# Altium integrated library Linear Technology Power Management Switching Regulator LTC1174-LTC3901.IntLib: 2647 symbols (part 151 of 364)
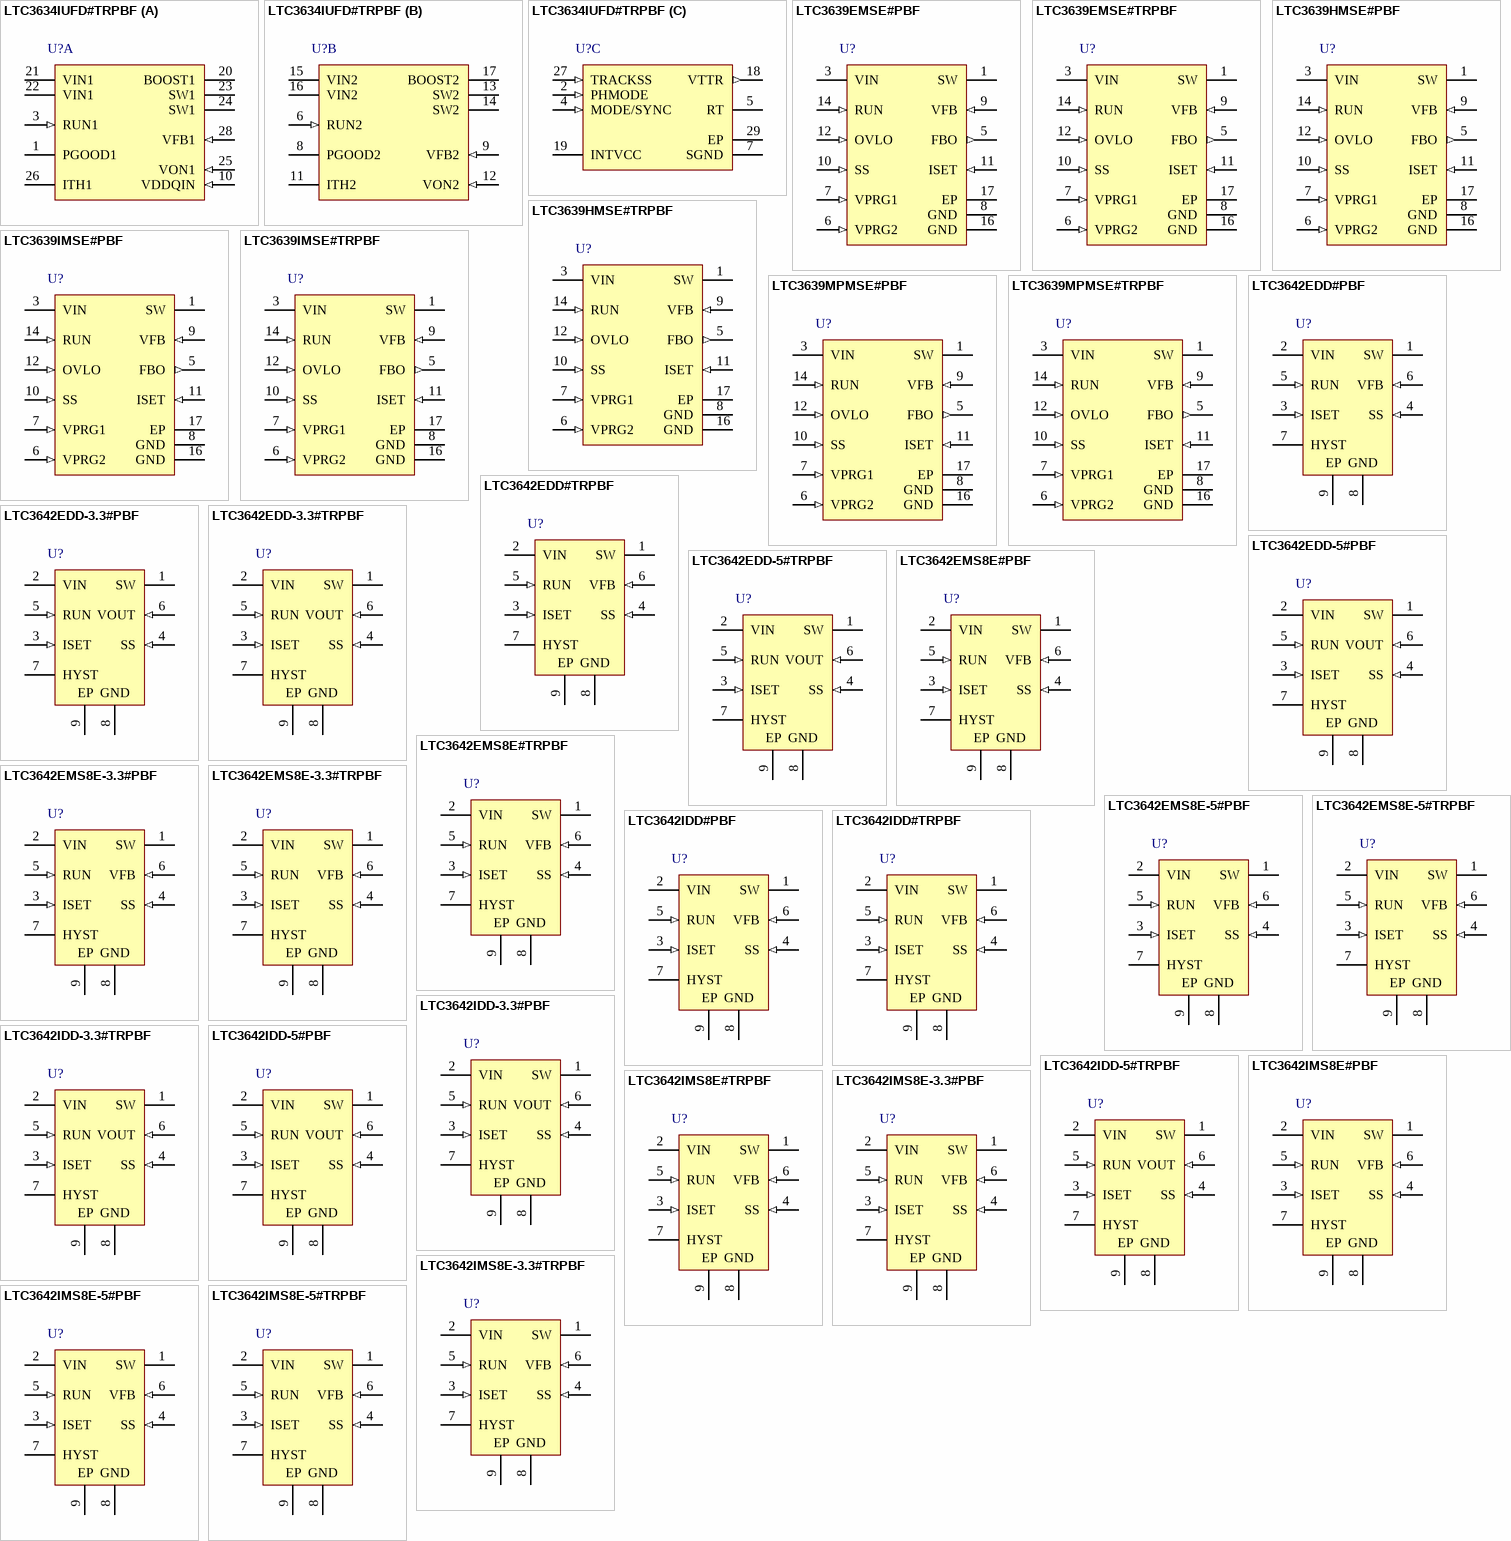
[diagram p192: symbols LTC3634IUFD#TRPBF to LTC3642IMS8E-5#TRPBF]

## LTC3639HMSE#PBF
designator U?
High Efficiency, 100 mA Synchronous Step-Down Regulator, 16-pin SOP (MSE-16-V(12)4PR-EDP), -40 to 150 degC, Pb-Free; Manufacturer: Linear Technology; PartNumber: LTC3639HMSE#PBF; Number of Outputs: 1; DatasheetVersion: Rev. A; PackageVersion: Rev. D, 05/2013; PackageReference: MSE-16; PackageDescription: 12-Pin Plastic MSOP, Exposed Die Pad, Body 4.039 x 3 mm, Pitch 0.5 mm; Supplier 1: Digi-Key; Supplier Part Number 1: LTC3639HMSE#PBF-ND; Supplier 2: Newark; Supplier Part Number 2: 86W7558; RoHS: TRUE; Mounting Technology: Surface Mount; ComponentLink1Description: Manufacturer URL; ComponentLink1URL: http://www.linear.com/; ComponentLink2Description: Datasheet; ComponentLink2URL: http://cds.linear.com/docs/en/datasheet/3639fa.pdf; ComponentLink3Description: Package Specification; ComponentLink3URL: http://cds.linear.com/docs/en/packaging/05081871_D_MSE16(12).pdf
footprint LT-MSE-16-V(12)4PR-EDP_N (SOP, 12-Leads, Body 4.1x3.1mm, Pitch 0.5mm, Thermal Pad 1.76x2.95mm, IPC Medium Density)
footprint LT-MSE-16-V(12)4PR-EDP_L (SOP, 12-Leads, Body 4.1x3.1mm, Pitch 0.5mm, Thermal Pad 1.76x2.95mm, IPC High Density)
footprint LT-MSE-16-V(12)4PR-EDP_M (SOP, 12-Leads, Body 4.1x3.1mm, Pitch 0.5mm, Thermal Pad 1.76x2.95mm, IPC Low Density)
pins: 1 SW (power) "Switch Node Connection to Inductor. This pin connects to the drains of the internal power MOSFET switches.", 3 VIN (power) "Main Supply Pin. A ceramic bypass capacitor should be tied between this pin and GND.", 5 FBO (out) "Feedback Comparator Output. Connect to the VFB pins of additional LTC3639s to combine the output current. The typical pull-up current is 20uA. The typical pulldown impedance is 70ohm. See Applications Information.", 6 VPRG2 (in) "Output Voltage Selection. Short both pins to ground for a resistive divider programmable output voltage. Short VPRG1 to SS and short VPRG2 to ground for a 5V output voltage. Short VPRG1 to ground and short VPRG2 to SS for a (See Datasheet)", 7 VPRG1 (in) "Output Voltage Selection. Short both pins to ground for a resistive divider programmable output voltage. Short VPRG1 to SS and short VPRG2 to ground for a 5V output voltage. Short VPRG1 to ground and short VPRG2 to SS for a (See Datasheet)", 8 GND (power) "Ground.", 9 VFB (in) "Output Voltage Feedback. When configured for an adjustable output voltage, connect to an external resistive divider to divide the output voltage down for comparison to the 0.8V reference. For the fixed output configuration, (See Datasheet)", 10 SS (in) "Soft-Start Control Input. A capacitor to ground at this pin sets the output voltage ramp time. A 50uA current initially charges the soft-start capacitor until switching begins, at which time the current is reduced to its (See Datasheet)", 11 ISET (in) "Peak Current Set Input. A resistor from this pin to ground sets the peak current comparator threshold. Leave floating for the maximum peak current (230mA typical) or short to ground for minimum peak current (25mA typical). (See Datasheet)", 12 OVLO (in) "Overvoltage Lockout Input. Connect to the input supply through a resistor divider to set the overvoltage lockout level. A voltage on this pin above 1.21V disables the internal MOSFET switches. Normal operation resumes when (See Datasheet)", 14 RUN (in) "Run Control Input. A voltage on this pin above 1.21V enables normal operation. Forcing this pin below 0.7V shuts down the LTC3639, reducing quiescent current to approximately 1.4uA. Optionally, connect to the input supply (See Datasheet)", 16 GND (power) "Ground.", 17 EP (power) "Ground. The exposed pad must be soldered to the PCB ground plane for rated thermal performance."

## LTC3639HMSE#TRPBF
designator U?
High Efficiency, 100 mA Synchronous Step-Down Regulator, 16-pin SOP (MSE-16-V(12)4PR-EDP), -40 to 150 degC, Pb-Free, Tape and Reel; Manufacturer: Linear Technology; PartNumber: LTC3639HMSE#TRPBF; Number of Outputs: 1; DatasheetVersion: Rev. A; PackageVersion: Rev. D, 05/2013; PackageReference: MSE-16; PackageDescription: 12-Pin Plastic MSOP, Exposed Die Pad, Body 4.039 x 3 mm, Pitch 0.5 mm; Supplier 1: Digi-Key; Supplier Part Number 1: LTC3639HMSE#TRPBF-ND; Supplier 2: Newark; Supplier Part Number 2: 86W7559; Packing: Tape and Reel; RoHS: TRUE; Mounting Technology: Surface Mount; ComponentLink1Description: Manufacturer URL; ComponentLink1URL: http://www.linear.com/; ComponentLink2Description: Datasheet; ComponentLink2URL: http://cds.linear.com/docs/en/datasheet/3639fa.pdf; ComponentLink3Description: Package Specification; ComponentLink3URL: http://cds.linear.com/docs/en/packaging/05081871_D_MSE16(12).pdf
footprint LT-MSE-16-V(12)4PR-EDP_N (SOP, 12-Leads, Body 4.1x3.1mm, Pitch 0.5mm, Thermal Pad 1.76x2.95mm, IPC Medium Density)
footprint LT-MSE-16-V(12)4PR-EDP_L (SOP, 12-Leads, Body 4.1x3.1mm, Pitch 0.5mm, Thermal Pad 1.76x2.95mm, IPC High Density)
footprint LT-MSE-16-V(12)4PR-EDP_M (SOP, 12-Leads, Body 4.1x3.1mm, Pitch 0.5mm, Thermal Pad 1.76x2.95mm, IPC Low Density)
pins: 1 SW (power) "Switch Node Connection to Inductor. This pin connects to the drains of the internal power MOSFET switches.", 3 VIN (power) "Main Supply Pin. A ceramic bypass capacitor should be tied between this pin and GND.", 5 FBO (out) "Feedback Comparator Output. Connect to the VFB pins of additional LTC3639s to combine the output current. The typical pull-up current is 20uA. The typical pulldown impedance is 70ohm. See Applications Information.", 6 VPRG2 (in) "Output Voltage Selection. Short both pins to ground for a resistive divider programmable output voltage. Short VPRG1 to SS and short VPRG2 to ground for a 5V output voltage. Short VPRG1 to ground and short VPRG2 to SS for a (See Datasheet)", 7 VPRG1 (in) "Output Voltage Selection. Short both pins to ground for a resistive divider programmable output voltage. Short VPRG1 to SS and short VPRG2 to ground for a 5V output voltage. Short VPRG1 to ground and short VPRG2 to SS for a (See Datasheet)", 8 GND (power) "Ground.", 9 VFB (in) "Output Voltage Feedback. When configured for an adjustable output voltage, connect to an external resistive divider to divide the output voltage down for comparison to the 0.8V reference. For the fixed output configuration, (See Datasheet)", 10 SS (in) "Soft-Start Control Input. A capacitor to ground at this pin sets the output voltage ramp time. A 50uA current initially charges the soft-start capacitor until switching begins, at which time the current is reduced to its (See Datasheet)", 11 ISET (in) "Peak Current Set Input. A resistor from this pin to ground sets the peak current comparator threshold. Leave floating for the maximum peak current (230mA typical) or short to ground for minimum peak current (25mA typical). (See Datasheet)", 12 OVLO (in) "Overvoltage Lockout Input. Connect to the input supply through a resistor divider to set the overvoltage lockout level. A voltage on this pin above 1.21V disables the internal MOSFET switches. Normal operation resumes when (See Datasheet)", 14 RUN (in) "Run Control Input. A voltage on this pin above 1.21V enables normal operation. Forcing this pin below 0.7V shuts down the LTC3639, reducing quiescent current to approximately 1.4uA. Optionally, connect to the input supply (See Datasheet)", 16 GND (power) "Ground.", 17 EP (power) "Ground. The exposed pad must be soldered to the PCB ground plane for rated thermal performance."

## LTC3639IMSE#PBF
designator U?
High Efficiency, 100 mA Synchronous Step-Down Regulator, 16-pin SOP (MSE-16-V(12)4PR-EDP), -40 to 125 degC, Pb-Free; Manufacturer: Linear Technology; PartNumber: LTC3639IMSE#PBF; Number of Outputs: 1; DatasheetVersion: Rev. A; PackageVersion: Rev. D, 05/2013; PackageReference: MSE-16; PackageDescription: 12-Pin Plastic MSOP, Exposed Die Pad, Body 4.039 x 3 mm, Pitch 0.5 mm; Supplier 1: Digi-Key; Supplier Part Number 1: LTC3639IMSE#PBF-ND; Supplier 2: Newark; Supplier Part Number 2: 86W7560; RoHS: TRUE; Mounting Technology: Surface Mount; ComponentLink1Description: Manufacturer URL; ComponentLink1URL: http://www.linear.com/; ComponentLink2Description: Datasheet; ComponentLink2URL: http://cds.linear.com/docs/en/datasheet/3639fa.pdf; ComponentLink3Description: Package Specification; ComponentLink3URL: http://cds.linear.com/docs/en/packaging/05081871_D_MSE16(12).pdf
footprint LT-MSE-16-V(12)4PR-EDP_N (SOP, 12-Leads, Body 4.1x3.1mm, Pitch 0.5mm, Thermal Pad 1.76x2.95mm, IPC Medium Density)
footprint LT-MSE-16-V(12)4PR-EDP_L (SOP, 12-Leads, Body 4.1x3.1mm, Pitch 0.5mm, Thermal Pad 1.76x2.95mm, IPC High Density)
footprint LT-MSE-16-V(12)4PR-EDP_M (SOP, 12-Leads, Body 4.1x3.1mm, Pitch 0.5mm, Thermal Pad 1.76x2.95mm, IPC Low Density)
pins: 1 SW (power) "Switch Node Connection to Inductor. This pin connects to the drains of the internal power MOSFET switches.", 3 VIN (power) "Main Supply Pin. A ceramic bypass capacitor should be tied between this pin and GND.", 5 FBO (out) "Feedback Comparator Output. Connect to the VFB pins of additional LTC3639s to combine the output current. The typical pull-up current is 20uA. The typical pulldown impedance is 70ohm. See Applications Information.", 6 VPRG2 (in) "Output Voltage Selection. Short both pins to ground for a resistive divider programmable output voltage. Short VPRG1 to SS and short VPRG2 to ground for a 5V output voltage. Short VPRG1 to ground and short VPRG2 to SS for a (See Datasheet)", 7 VPRG1 (in) "Output Voltage Selection. Short both pins to ground for a resistive divider programmable output voltage. Short VPRG1 to SS and short VPRG2 to ground for a 5V output voltage. Short VPRG1 to ground and short VPRG2 to SS for a (See Datasheet)", 8 GND (power) "Ground.", 9 VFB (in) "Output Voltage Feedback. When configured for an adjustable output voltage, connect to an external resistive divider to divide the output voltage down for comparison to the 0.8V reference. For the fixed output configuration, (See Datasheet)", 10 SS (in) "Soft-Start Control Input. A capacitor to ground at this pin sets the output voltage ramp time. A 50uA current initially charges the soft-start capacitor until switching begins, at which time the current is reduced to its (See Datasheet)", 11 ISET (in) "Peak Current Set Input. A resistor from this pin to ground sets the peak current comparator threshold. Leave floating for the maximum peak current (230mA typical) or short to ground for minimum peak current (25mA typical). (See Datasheet)", 12 OVLO (in) "Overvoltage Lockout Input. Connect to the input supply through a resistor divider to set the overvoltage lockout level. A voltage on this pin above 1.21V disables the internal MOSFET switches. Normal operation resumes when (See Datasheet)", 14 RUN (in) "Run Control Input. A voltage on this pin above 1.21V enables normal operation. Forcing this pin below 0.7V shuts down the LTC3639, reducing quiescent current to approximately 1.4uA. Optionally, connect to the input supply (See Datasheet)", 16 GND (power) "Ground.", 17 EP (power) "Ground. The exposed pad must be soldered to the PCB ground plane for rated thermal performance."

## LTC3639IMSE#TRPBF
designator U?
High Efficiency, 100 mA Synchronous Step-Down Regulator, 16-pin SOP (MSE-16-V(12)4PR-EDP), -40 to 125 degC, Pb-Free, Tape and Reel; Manufacturer: Linear Technology; PartNumber: LTC3639IMSE#TRPBF; Number of Outputs: 1; DatasheetVersion: Rev. A; PackageVersion: Rev. D, 05/2013; PackageReference: MSE-16; PackageDescription: 12-Pin Plastic MSOP, Exposed Die Pad, Body 4.039 x 3 mm, Pitch 0.5 mm; Supplier 1: Digi-Key; Supplier Part Number 1: LTC3639IMSE#TRPBF-ND; Supplier 2: Newark; Supplier Part Number 2: 86W7561; Packing: Tape and Reel; RoHS: TRUE; Mounting Technology: Surface Mount; ComponentLink1Description: Manufacturer URL; ComponentLink1URL: http://www.linear.com/; ComponentLink2Description: Datasheet; ComponentLink2URL: http://cds.linear.com/docs/en/datasheet/3639fa.pdf; ComponentLink3Description: Package Specification; ComponentLink3URL: http://cds.linear.com/docs/en/packaging/05081871_D_MSE16(12).pdf
footprint LT-MSE-16-V(12)4PR-EDP_N (SOP, 12-Leads, Body 4.1x3.1mm, Pitch 0.5mm, Thermal Pad 1.76x2.95mm, IPC Medium Density)
footprint LT-MSE-16-V(12)4PR-EDP_L (SOP, 12-Leads, Body 4.1x3.1mm, Pitch 0.5mm, Thermal Pad 1.76x2.95mm, IPC High Density)
footprint LT-MSE-16-V(12)4PR-EDP_M (SOP, 12-Leads, Body 4.1x3.1mm, Pitch 0.5mm, Thermal Pad 1.76x2.95mm, IPC Low Density)
pins: 1 SW (power) "Switch Node Connection to Inductor. This pin connects to the drains of the internal power MOSFET switches.", 3 VIN (power) "Main Supply Pin. A ceramic bypass capacitor should be tied between this pin and GND.", 5 FBO (out) "Feedback Comparator Output. Connect to the VFB pins of additional LTC3639s to combine the output current. The typical pull-up current is 20uA. The typical pulldown impedance is 70ohm. See Applications Information.", 6 VPRG2 (in) "Output Voltage Selection. Short both pins to ground for a resistive divider programmable output voltage. Short VPRG1 to SS and short VPRG2 to ground for a 5V output voltage. Short VPRG1 to ground and short VPRG2 to SS for a (See Datasheet)", 7 VPRG1 (in) "Output Voltage Selection. Short both pins to ground for a resistive divider programmable output voltage. Short VPRG1 to SS and short VPRG2 to ground for a 5V output voltage. Short VPRG1 to ground and short VPRG2 to SS for a (See Datasheet)", 8 GND (power) "Ground.", 9 VFB (in) "Output Voltage Feedback. When configured for an adjustable output voltage, connect to an external resistive divider to divide the output voltage down for comparison to the 0.8V reference. For the fixed output configuration, (See Datasheet)", 10 SS (in) "Soft-Start Control Input. A capacitor to ground at this pin sets the output voltage ramp time. A 50uA current initially charges the soft-start capacitor until switching begins, at which time the current is reduced to its (See Datasheet)", 11 ISET (in) "Peak Current Set Input. A resistor from this pin to ground sets the peak current comparator threshold. Leave floating for the maximum peak current (230mA typical) or short to ground for minimum peak current (25mA typical). (See Datasheet)", 12 OVLO (in) "Overvoltage Lockout Input. Connect to the input supply through a resistor divider to set the overvoltage lockout level. A voltage on this pin above 1.21V disables the internal MOSFET switches. Normal operation resumes when (See Datasheet)", 14 RUN (in) "Run Control Input. A voltage on this pin above 1.21V enables normal operation. Forcing this pin below 0.7V shuts down the LTC3639, reducing quiescent current to approximately 1.4uA. Optionally, connect to the input supply (See Datasheet)", 16 GND (power) "Ground.", 17 EP (power) "Ground. The exposed pad must be soldered to the PCB ground plane for rated thermal performance."

## LTC3639MPMSE#PBF
designator U?
High Efficiency, 100 mA Synchronous Step-Down Regulator, 16-pin SOP (MSE-16-V(12)4PR-EDP), -55 to 150 degC, Pb-Free; Manufacturer: Linear Technology; PartNumber: LTC3639MPMSE#PBF; Number of Outputs: 1; DatasheetVersion: Rev. A; PackageVersion: Rev. D, 05/2013; PackageReference: MSE-16; PackageDescription: 12-Pin Plastic MSOP, Exposed Die Pad, Body 4.039 x 3 mm, Pitch 0.5 mm; Supplier 1: Digi-Key; Supplier Part Number 1: LTC3639MPMSE#PBF-ND; Supplier 2: Newark; Supplier Part Number 2: 86W7562; RoHS: TRUE; Mounting Technology: Surface Mount; ComponentLink1Description: Manufacturer URL; ComponentLink1URL: http://www.linear.com/; ComponentLink2Description: Datasheet; ComponentLink2URL: http://cds.linear.com/docs/en/datasheet/3639fa.pdf; ComponentLink3Description: Package Specification; ComponentLink3URL: http://cds.linear.com/docs/en/packaging/05081871_D_MSE16(12).pdf
footprint LT-MSE-16-V(12)4PR-EDP_N (SOP, 12-Leads, Body 4.1x3.1mm, Pitch 0.5mm, Thermal Pad 1.76x2.95mm, IPC Medium Density)
footprint LT-MSE-16-V(12)4PR-EDP_L (SOP, 12-Leads, Body 4.1x3.1mm, Pitch 0.5mm, Thermal Pad 1.76x2.95mm, IPC High Density)
footprint LT-MSE-16-V(12)4PR-EDP_M (SOP, 12-Leads, Body 4.1x3.1mm, Pitch 0.5mm, Thermal Pad 1.76x2.95mm, IPC Low Density)
pins: 1 SW (power) "Switch Node Connection to Inductor. This pin connects to the drains of the internal power MOSFET switches.", 3 VIN (power) "Main Supply Pin. A ceramic bypass capacitor should be tied between this pin and GND.", 5 FBO (out) "Feedback Comparator Output. Connect to the VFB pins of additional LTC3639s to combine the output current. The typical pull-up current is 20uA. The typical pulldown impedance is 70ohm. See Applications Information.", 6 VPRG2 (in) "Output Voltage Selection. Short both pins to ground for a resistive divider programmable output voltage. Short VPRG1 to SS and short VPRG2 to ground for a 5V output voltage. Short VPRG1 to ground and short VPRG2 to SS for a (See Datasheet)", 7 VPRG1 (in) "Output Voltage Selection. Short both pins to ground for a resistive divider programmable output voltage. Short VPRG1 to SS and short VPRG2 to ground for a 5V output voltage. Short VPRG1 to ground and short VPRG2 to SS for a (See Datasheet)", 8 GND (power) "Ground.", 9 VFB (in) "Output Voltage Feedback. When configured for an adjustable output voltage, connect to an external resistive divider to divide the output voltage down for comparison to the 0.8V reference. For the fixed output configuration, (See Datasheet)", 10 SS (in) "Soft-Start Control Input. A capacitor to ground at this pin sets the output voltage ramp time. A 50uA current initially charges the soft-start capacitor until switching begins, at which time the current is reduced to its (See Datasheet)", 11 ISET (in) "Peak Current Set Input. A resistor from this pin to ground sets the peak current comparator threshold. Leave floating for the maximum peak current (230mA typical) or short to ground for minimum peak current (25mA typical). (See Datasheet)", 12 OVLO (in) "Overvoltage Lockout Input. Connect to the input supply through a resistor divider to set the overvoltage lockout level. A voltage on this pin above 1.21V disables the internal MOSFET switches. Normal operation resumes when (See Datasheet)", 14 RUN (in) "Run Control Input. A voltage on this pin above 1.21V enables normal operation. Forcing this pin below 0.7V shuts down the LTC3639, reducing quiescent current to approximately 1.4uA. Optionally, connect to the input supply (See Datasheet)", 16 GND (power) "Ground.", 17 EP (power) "Ground. The exposed pad must be soldered to the PCB ground plane for rated thermal performance."

## LTC3639MPMSE#TRPBF
designator U?
High Efficiency, 100 mA Synchronous Step-Down Regulator, 16-pin SOP (MSE-16-V(12)4PR-EDP), -55 to 150 degC, Pb-Free, Tape and Reel; Manufacturer: Linear Technology; PartNumber: LTC3639MPMSE#TRPBF; Number of Outputs: 1; DatasheetVersion: Rev. A; PackageVersion: Rev. D, 05/2013; PackageReference: MSE-16; PackageDescription: 12-Pin Plastic MSOP, Exposed Die Pad, Body 4.039 x 3 mm, Pitch 0.5 mm; Supplier 1: Digi-Key; Supplier Part Number 1: LTC3639MPMSE#TRPBF-ND; Supplier 2: Newark; Supplier Part Number 2: 86W7563; Packing: Tape and Reel; RoHS: TRUE; Mounting Technology: Surface Mount; ComponentLink1Description: Manufacturer URL; ComponentLink1URL: http://www.linear.com/; ComponentLink2Description: Datasheet; ComponentLink2URL: http://cds.linear.com/docs/en/datasheet/3639fa.pdf; ComponentLink3Description: Package Specification; ComponentLink3URL: http://cds.linear.com/docs/en/packaging/05081871_D_MSE16(12).pdf
footprint LT-MSE-16-V(12)4PR-EDP_N (SOP, 12-Leads, Body 4.1x3.1mm, Pitch 0.5mm, Thermal Pad 1.76x2.95mm, IPC Medium Density)
footprint LT-MSE-16-V(12)4PR-EDP_L (SOP, 12-Leads, Body 4.1x3.1mm, Pitch 0.5mm, Thermal Pad 1.76x2.95mm, IPC High Density)
footprint LT-MSE-16-V(12)4PR-EDP_M (SOP, 12-Leads, Body 4.1x3.1mm, Pitch 0.5mm, Thermal Pad 1.76x2.95mm, IPC Low Density)
pins: 1 SW (power) "Switch Node Connection to Inductor. This pin connects to the drains of the internal power MOSFET switches.", 3 VIN (power) "Main Supply Pin. A ceramic bypass capacitor should be tied between this pin and GND.", 5 FBO (out) "Feedback Comparator Output. Connect to the VFB pins of additional LTC3639s to combine the output current. The typical pull-up current is 20uA. The typical pulldown impedance is 70ohm. See Applications Information.", 6 VPRG2 (in) "Output Voltage Selection. Short both pins to ground for a resistive divider programmable output voltage. Short VPRG1 to SS and short VPRG2 to ground for a 5V output voltage. Short VPRG1 to ground and short VPRG2 to SS for a (See Datasheet)", 7 VPRG1 (in) "Output Voltage Selection. Short both pins to ground for a resistive divider programmable output voltage. Short VPRG1 to SS and short VPRG2 to ground for a 5V output voltage. Short VPRG1 to ground and short VPRG2 to SS for a (See Datasheet)", 8 GND (power) "Ground.", 9 VFB (in) "Output Voltage Feedback. When configured for an adjustable output voltage, connect to an external resistive divider to divide the output voltage down for comparison to the 0.8V reference. For the fixed output configuration, (See Datasheet)", 10 SS (in) "Soft-Start Control Input. A capacitor to ground at this pin sets the output voltage ramp time. A 50uA current initially charges the soft-start capacitor until switching begins, at which time the current is reduced to its (See Datasheet)", 11 ISET (in) "Peak Current Set Input. A resistor from this pin to ground sets the peak current comparator threshold. Leave floating for the maximum peak current (230mA typical) or short to ground for minimum peak current (25mA typical). (See Datasheet)", 12 OVLO (in) "Overvoltage Lockout Input. Connect to the input supply through a resistor divider to set the overvoltage lockout level. A voltage on this pin above 1.21V disables the internal MOSFET switches. Normal operation resumes when (See Datasheet)", 14 RUN (in) "Run Control Input. A voltage on this pin above 1.21V enables normal operation. Forcing this pin below 0.7V shuts down the LTC3639, reducing quiescent current to approximately 1.4uA. Optionally, connect to the input supply (See Datasheet)", 16 GND (power) "Ground.", 17 EP (power) "Ground. The exposed pad must be soldered to the PCB ground plane for rated thermal performance."

## LTC3642EDD#PBF
designator U?
High Efficiency, High Voltage 50 mA Synchronous Step-Down Converter, 8-pin SON (DD-8), -40 to 125 degC, Pb-Free; Manufacturer: Linear Technology; PartNumber: LTC3642EDD#PBF; Number of Outputs: 1; Over Voltage Protection(V): 60; DatasheetVersion: Rev. C; PackageVersion: Jun-10; PackageReference: DD-8; PackageDescription: 8-Pin Plastic DFN, Body 3 x 3 mm, Pitch 0.5 mm; Supplier 1: Digi-Key; Supplier Part Number 1: LTC3642EDD#PBF-ND; Supplier 2: Farnell; Supplier Part Number 2: 2295114; Supplier 3: Newark; Supplier Part Number 3: 31P7582; RoHS: TRUE; Mounting Technology: Surface Mount; Code_JEDEC: MO-229; ComponentLink1Description: Manufacturer URL; ComponentLink1URL: http://www.linear.com/; ComponentLink2Description: Datasheet; ComponentLink2URL: http://cds.linear.com/docs/en/datasheet/3642fc.pdf; ComponentLink3Description: Package Specification; ComponentLink3URL: http://cds.linear.com/docs/en/packaging/DFN_8_05-08-1698.pdf
footprint LT-DD-8_V (SON, 8-Leads, Body 3x3mm, Pitch 0.5mm, Thermal Pad 1.65x2.38 mm)
pins: 1 SW (power) "Switch Node Connection to Inductor. This pin connects to the drains of the internal power MOSFET switches.", 2 VIN (power) "Main Supply Pin. A ceramic bypass capacitor should be tied between this pin and GND (Pin 8).", 3 ISET (in), 4 SS (in), 5 RUN (in), 6 VFB (in) "Ground Connection for Internal Circuitry and Power Path Return. Tie directly to local ground plane.", 7 HYST (oc), 8 GND (power) "Ground.", 9 EP (power) "The exposed pad must be soldered to the printed circuit board ground plane for optimal electrical and thermal performance."

## LTC3642EDD#TRPBF
designator U?
High Efficiency, High Voltage 50 mA Synchronous Step-Down Converter, 8-pin SON (DD-8), -40 to 125 degC, Pb-Free, Tape and Reel; Manufacturer: Linear Technology; PartNumber: LTC3642EDD#TRPBF; Number of Outputs: 1; Over Voltage Protection(V): 60; DatasheetVersion: Rev. C; PackageVersion: Jun-10; PackageReference: DD-8; PackageDescription: 8-Pin Plastic DFN, Body 3 x 3 mm, Pitch 0.5 mm; Supplier 1: Digi-Key; Supplier Part Number 1: LTC3642EDD#TRPBF-ND; Packing: Tape and Reel; RoHS: TRUE; Mounting Technology: Surface Mount; Code_JEDEC: MO-229; ComponentLink1Description: Manufacturer URL; ComponentLink1URL: http://www.linear.com/; ComponentLink2Description: Datasheet; ComponentLink2URL: http://cds.linear.com/docs/en/datasheet/3642fc.pdf; ComponentLink3Description: Package Specification; ComponentLink3URL: http://cds.linear.com/docs/en/packaging/DFN_8_05-08-1698.pdf
footprint LT-DD-8_V (SON, 8-Leads, Body 3x3mm, Pitch 0.5mm, Thermal Pad 1.65x2.38 mm)
pins: 1 SW (power) "Switch Node Connection to Inductor. This pin connects to the drains of the internal power MOSFET switches.", 2 VIN (power) "Main Supply Pin. A ceramic bypass capacitor should be tied between this pin and GND (Pin 8).", 3 ISET (in), 4 SS (in), 5 RUN (in), 6 VFB (in) "Ground Connection for Internal Circuitry and Power Path Return. Tie directly to local ground plane.", 7 HYST (oc), 8 GND (power) "Ground.", 9 EP (power) "The exposed pad must be soldered to the printed circuit board ground plane for optimal electrical and thermal performance."

## LTC3642EDD-3.3#PBF
designator U?
High Efficiency, High Voltage 50 mA Synchronous Step-Down Converter, 8-pin SON (DD-8), -40 to 125 degC, Pb-Free; Manufacturer: Linear Technology; PartNumber: LTC3642EDD-3.3#PBF; Number of Outputs: 1; Over Voltage Protection(V): 60; DatasheetVersion: Rev. C; PackageVersion: Jun-10; PackageReference: DD-8; PackageDescription: 8-Pin Plastic DFN, Body 3 x 3 mm, Pitch 0.5 mm; Supplier 1: Digi-Key; Supplier Part Number 1: LTC3642EDD-3.3#PBF-ND; Supplier 2: Newark; Supplier Part Number 2: 31P7578; RoHS: TRUE; Mounting Technology: Surface Mount; Code_JEDEC: MO-229; ComponentLink1Description: Manufacturer URL; ComponentLink1URL: http://www.linear.com/; ComponentLink2Description: Datasheet; ComponentLink2URL: http://cds.linear.com/docs/en/datasheet/3642fc.pdf; ComponentLink3Description: Package Specification; ComponentLink3URL: http://cds.linear.com/docs/en/packaging/DFN_8_05-08-1698.pdf
footprint LT-DD-8_V (SON, 8-Leads, Body 3x3mm, Pitch 0.5mm, Thermal Pad 1.65x2.38 mm)
pins: 1 SW (power) "Switch Node Connection to Inductor. This pin connects to the drains of the internal power MOSFET switches.", 2 VIN (power) "Main Supply Pin. A ceramic bypass capacitor should be tied between this pin and GND (Pin 8).", 3 ISET (in), 4 SS (in) "Soft-Start Control Input. A capacitor to ground at this pin sets the ramp time to full current output during start-up. A 5uA current is sourced out of this pin. If left floating, the ramp time defaults to an internal 0.75ms (See Datasheet)", 5 RUN (in), 6 VOUT (in) "Output Voltage Feedback. For the fixed output versions, connect this pin to the output supply.", 7 HYST (oc) "Run Hysteresis Open-Drain Logic Output. This pin is pulled to ground when RUN (Pin 5) is below 1.2V. This pin can be used to adjust the RUN pin hysteresis. See Applications Information.", 8 GND (power) "Ground.", 9 EP (power) "The exposed pad must be soldered to the printed circuit board ground plane for optimal electrical and thermal performance."

## LTC3642EDD-3.3#TRPBF
designator U?
High Efficiency, High Voltage 50 mA Synchronous Step-Down Converter, 8-pin SON (DD-8), -40 to 125 degC, Pb-Free, Tape and Reel; Manufacturer: Linear Technology; PartNumber: LTC3642EDD-3.3#TRPBF; Number of Outputs: 1; Over Voltage Protection(V): 60; DatasheetVersion: Rev. C; PackageVersion: Jun-10; PackageReference: DD-8; PackageDescription: 8-Pin Plastic DFN, Body 3 x 3 mm, Pitch 0.5 mm; Supplier 1: Digi-Key; Supplier Part Number 1: LTC3642EDD-3.3#TRPBF-ND; Supplier 2: Newark; Supplier Part Number 2: 31P7579; Packing: Tape and Reel; RoHS: TRUE; Mounting Technology: Surface Mount; Code_JEDEC: MO-229; ComponentLink1Description: Manufacturer URL; ComponentLink1URL: http://www.linear.com/; ComponentLink2Description: Datasheet; ComponentLink2URL: http://cds.linear.com/docs/en/datasheet/3642fc.pdf; ComponentLink3Description: Package Specification; ComponentLink3URL: http://cds.linear.com/docs/en/packaging/DFN_8_05-08-1698.pdf
footprint LT-DD-8_V (SON, 8-Leads, Body 3x3mm, Pitch 0.5mm, Thermal Pad 1.65x2.38 mm)
pins: 1 SW (power) "Switch Node Connection to Inductor. This pin connects to the drains of the internal power MOSFET switches.", 2 VIN (power) "Main Supply Pin. A ceramic bypass capacitor should be tied between this pin and GND (Pin 8).", 3 ISET (in), 4 SS (in) "Soft-Start Control Input. A capacitor to ground at this pin sets the ramp time to full current output during start-up. A 5uA current is sourced out of this pin. If left floating, the ramp time defaults to an internal 0.75ms (See Datasheet)", 5 RUN (in), 6 VOUT (in) "Output Voltage Feedback. For the fixed output versions, connect this pin to the output supply.", 7 HYST (oc) "Run Hysteresis Open-Drain Logic Output. This pin is pulled to ground when RUN (Pin 5) is below 1.2V. This pin can be used to adjust the RUN pin hysteresis. See Applications Information.", 8 GND (power) "Ground.", 9 EP (power) "The exposed pad must be soldered to the printed circuit board ground plane for optimal electrical and thermal performance."

## LTC3642EDD-5#PBF
designator U?
High Efficiency, High Voltage 50 mA Synchronous Step-Down Converter, 8-pin SON (DD-8), -40 to 125 degC, Pb-Free; Manufacturer: Linear Technology; PartNumber: LTC3642EDD-5#PBF; Number of Outputs: 1; Over Voltage Protection(V): 60; DatasheetVersion: Rev. C; PackageVersion: Jun-10; PackageReference: DD-8; PackageDescription: 8-Pin Plastic DFN, Body 3 x 3 mm, Pitch 0.5 mm; Supplier 1: Digi-Key; Supplier Part Number 1: LTC3642EDD-5#PBF-ND; Supplier 2: Newark; Supplier Part Number 2: 31P7580; RoHS: TRUE; Mounting Technology: Surface Mount; Code_JEDEC: MO-229; ComponentLink1Description: Manufacturer URL; ComponentLink1URL: http://www.linear.com/; ComponentLink2Description: Datasheet; ComponentLink2URL: http://cds.linear.com/docs/en/datasheet/3642fc.pdf; ComponentLink3Description: Package Specification; ComponentLink3URL: http://cds.linear.com/docs/en/packaging/DFN_8_05-08-1698.pdf
footprint LT-DD-8_V (SON, 8-Leads, Body 3x3mm, Pitch 0.5mm, Thermal Pad 1.65x2.38 mm)
pins: 1 SW (power) "Switch Node Connection to Inductor. This pin connects to the drains of the internal power MOSFET switches.", 2 VIN (power) "Main Supply Pin. A ceramic bypass capacitor should be tied between this pin and GND (Pin 8).", 3 ISET (in), 4 SS (in) "Soft-Start Control Input. A capacitor to ground at this pin sets the ramp time to full current output during start-up. A 5uA current is sourced out of this pin. If left floating, the ramp time defaults to an internal 0.75ms (See Datasheet)", 5 RUN (in), 6 VOUT (in) "Output Voltage Feedback. For the fixed output versions, connect this pin to the output supply.", 7 HYST (oc) "Run Hysteresis Open-Drain Logic Output. This pin is pulled to ground when RUN (Pin 5) is below 1.2V. This pin can be used to adjust the RUN pin hysteresis. See Applications Information.", 8 GND (power) "Ground.", 9 EP (power) "The exposed pad must be soldered to the printed circuit board ground plane for optimal electrical and thermal performance."

## LTC3642EDD-5#TRPBF
designator U?
High Efficiency, High Voltage 50 mA Synchronous Step-Down Converter, 8-pin SON (DD-8), -40 to 125 degC, Pb-Free, Tape and Reel; Manufacturer: Linear Technology; PartNumber: LTC3642EDD-5#TRPBF; Number of Outputs: 1; Over Voltage Protection(V): 60; DatasheetVersion: Rev. C; PackageVersion: Jun-10; PackageReference: DD-8; PackageDescription: 8-Pin Plastic DFN, Body 3 x 3 mm, Pitch 0.5 mm; Supplier 1: Digi-Key; Supplier Part Number 1: LTC3642EDD-5#TRPBF-ND; Packing: Tape and Reel; RoHS: TRUE; Mounting Technology: Surface Mount; Code_JEDEC: MO-229; ComponentLink1Description: Manufacturer URL; ComponentLink1URL: http://www.linear.com/; ComponentLink2Description: Datasheet; ComponentLink2URL: http://cds.linear.com/docs/en/datasheet/3642fc.pdf; ComponentLink3Description: Package Specification; ComponentLink3URL: http://cds.linear.com/docs/en/packaging/DFN_8_05-08-1698.pdf
footprint LT-DD-8_V (SON, 8-Leads, Body 3x3mm, Pitch 0.5mm, Thermal Pad 1.65x2.38 mm)
pins: 1 SW (power) "Switch Node Connection to Inductor. This pin connects to the drains of the internal power MOSFET switches.", 2 VIN (power) "Main Supply Pin. A ceramic bypass capacitor should be tied between this pin and GND (Pin 8).", 3 ISET (in), 4 SS (in) "Soft-Start Control Input. A capacitor to ground at this pin sets the ramp time to full current output during start-up. A 5uA current is sourced out of this pin. If left floating, the ramp time defaults to an internal 0.75ms (See Datasheet)", 5 RUN (in), 6 VOUT (in) "Output Voltage Feedback. For the fixed output versions, connect this pin to the output supply.", 7 HYST (oc) "Run Hysteresis Open-Drain Logic Output. This pin is pulled to ground when RUN (Pin 5) is below 1.2V. This pin can be used to adjust the RUN pin hysteresis. See Applications Information.", 8 GND (power) "Ground.", 9 EP (power) "The exposed pad must be soldered to the printed circuit board ground plane for optimal electrical and thermal performance."

## LTC3642EMS8E#PBF
designator U?
High Efficiency, High Voltage 50 mA Synchronous Step-Down Converter, 8-pin SOP(MS8E-8), -40 to 125 degC, Pb-Free; Manufacturer: Linear Technology; PartNumber: LTC3642EMS8E#PBF; Number of Outputs: 1; Over Voltage Protection(V): 60; DatasheetVersion: Rev. C; PackageVersion: Rev. F; PackageReference: MS8E-8; PackageDescription: 8-Pin Plastic MSOP, Exposed Die Pad, Body 3 x 3 mm, Pitch 0.65 mm; Supplier 1: Digi-Key; Supplier Part Number 1: LTC3642EMS8E#PBF-ND; Supplier 2: Farnell; Supplier Part Number 2: 2295115; Supplier 3: Newark; Supplier Part Number 3: 31P7588; RoHS: TRUE; Mounting Technology: Surface Mount; ComponentLink1Description: Manufacturer URL; ComponentLink1URL: http://www.linear.com/; ComponentLink2Description: Datasheet; ComponentLink2URL: http://cds.linear.com/docs/en/datasheet/3642fc.pdf; ComponentLink3Description: Package Specification; ComponentLink3URL: http://cds.linear.com/docs/en/datasheet/3080fc.pdf
footprint LT-MS8E-8-1880X1680TP_N (SOP, 8-Leads, Body 3.1x3.1mm, Pitch 0.65mm, Thermal Pad 1.88x1.68mm, IPC Medium Density)
footprint LT-MS8E-8-1880X1680TP_L (SOP, 8-Leads, Body 3.1x3.1mm, Pitch 0.65mm, Thermal Pad 1.88x1.68mm, IPC High Density)
footprint LT-MS8E-8-1880X1680TP_M (SOP, 8-Leads, Body 3.1x3.1mm, Pitch 0.65mm, Thermal Pad 1.88x1.68mm, IPC Low Density)
pins: 1 SW (power) "Switch Node Connection to Inductor. This pin connects to the drains of the internal power MOSFET switches.", 2 VIN (power) "Main Supply Pin. A ceramic bypass capacitor should be tied between this pin and GND (Pin 8).", 3 ISET (in), 4 SS (in) "Soft-Start Control Input. A capacitor to ground at this pin sets the ramp time to full current output during start-up. A 5uA current is sourced out of this pin. If left floating, the ramp time defaults to an internal 0.75ms (See Datasheet)", 5 RUN (in), 6 VFB (in) "Output Voltage Feedback. For the fixed output versions, connect this pin to the output supply. For the adjustable version, an external resistive divider should be used to divide the output voltage down for comparison to the (See Datasheet)", 7 HYST (oc) "Run Hysteresis Open-Drain Logic Output. This pin is pulled to ground when RUN (Pin 5) is below 1.2V. This pin can be used to adjust the RUN pin hysteresis. See Applications Information.", 8 GND (power) "Ground. The exposed pad must be soldered to the printed circuit board ground plane for optimal electrical and thermal performance.", 9 EP (power) "Ground. The exposed pad must be soldered to the printed circuit board ground plane for optimal electrical and thermal performance."

## LTC3642EMS8E#TRPBF
designator U?
High Efficiency, High Voltage 50 mA Synchronous Step-Down Converter, 8-pin SOP(MS8E-8), -40 to 125 degC, Pb-Free, Tape and Reel; Manufacturer: Linear Technology; PartNumber: LTC3642EMS8E#TRPBF; Number of Outputs: 1; Over Voltage Protection(V): 60; DatasheetVersion: Rev. C; PackageVersion: Rev. F; PackageReference: MS8E-8; PackageDescription: 8-Pin Plastic MSOP, Exposed Die Pad, Body 3 x 3 mm, Pitch 0.65 mm; Supplier 1: Digi-Key; Supplier Part Number 1: LTC3642EMS8E#TRPBF-ND; Supplier 2: Newark; Supplier Part Number 2: 31P7589; Packing: Tape and Reel; RoHS: TRUE; Mounting Technology: Surface Mount; ComponentLink1Description: Manufacturer URL; ComponentLink1URL: http://www.linear.com/; ComponentLink2Description: Datasheet; ComponentLink2URL: http://cds.linear.com/docs/en/datasheet/3642fc.pdf; ComponentLink3Description: Package Specification; ComponentLink3URL: http://cds.linear.com/docs/en/datasheet/3080fc.pdf
footprint LT-MS8E-8-1880X1680TP_N (SOP, 8-Leads, Body 3.1x3.1mm, Pitch 0.65mm, Thermal Pad 1.88x1.68mm, IPC Medium Density)
footprint LT-MS8E-8-1880X1680TP_L (SOP, 8-Leads, Body 3.1x3.1mm, Pitch 0.65mm, Thermal Pad 1.88x1.68mm, IPC High Density)
footprint LT-MS8E-8-1880X1680TP_M (SOP, 8-Leads, Body 3.1x3.1mm, Pitch 0.65mm, Thermal Pad 1.88x1.68mm, IPC Low Density)
pins: 1 SW (power) "Switch Node Connection to Inductor. This pin connects to the drains of the internal power MOSFET switches.", 2 VIN (power) "Main Supply Pin. A ceramic bypass capacitor should be tied between this pin and GND (Pin 8).", 3 ISET (in), 4 SS (in) "Soft-Start Control Input. A capacitor to ground at this pin sets the ramp time to full current output during start-up. A 5uA current is sourced out of this pin. If left floating, the ramp time defaults to an internal 0.75ms (See Datasheet)", 5 RUN (in), 6 VFB (in) "Output Voltage Feedback. For the fixed output versions, connect this pin to the output supply. For the adjustable version, an external resistive divider should be used to divide the output voltage down for comparison to the (See Datasheet)", 7 HYST (oc) "Run Hysteresis Open-Drain Logic Output. This pin is pulled to ground when RUN (Pin 5) is below 1.2V. This pin can be used to adjust the RUN pin hysteresis. See Applications Information.", 8 GND (power) "Ground. The exposed pad must be soldered to the printed circuit board ground plane for optimal electrical and thermal performance.", 9 EP (power) "Ground. The exposed pad must be soldered to the printed circuit board ground plane for optimal electrical and thermal performance."

## LTC3642EMS8E-3.3#PBF
designator U?
High Efficiency, High Voltage 50 mA Synchronous Step-Down Converter, 8-pin SOP(MS8E-8), -40 to 125 degC, Pb-Free; Manufacturer: Linear Technology; PartNumber: LTC3642EMS8E-3.3#PBF; Number of Outputs: 1; Over Voltage Protection(V): 60; DatasheetVersion: Rev. C; PackageVersion: Rev. F; PackageReference: MS8E-8; PackageDescription: 8-Pin Plastic MSOP, Exposed Die Pad, Body 3 x 3 mm, Pitch 0.65 mm; Supplier 1: Digi-Key; Supplier Part Number 1: LTC3642EMS8E-3.3#PBF-ND; Supplier 2: Farnell; Supplier Part Number 2: 2102644; Supplier 3: Newark; Supplier Part Number 3: 31P7584; RoHS: TRUE; Mounting Technology: Surface Mount; ComponentLink1Description: Manufacturer URL; ComponentLink1URL: http://www.linear.com/; ComponentLink2Description: Datasheet; ComponentLink2URL: http://cds.linear.com/docs/en/datasheet/3642fc.pdf; ComponentLink3Description: Package Specification; ComponentLink3URL: http://cds.linear.com/docs/en/datasheet/3080fc.pdf
footprint LT-MS8E-8-1880X1680TP_N (SOP, 8-Leads, Body 3.1x3.1mm, Pitch 0.65mm, Thermal Pad 1.88x1.68mm, IPC Medium Density)
footprint LT-MS8E-8-1880X1680TP_L (SOP, 8-Leads, Body 3.1x3.1mm, Pitch 0.65mm, Thermal Pad 1.88x1.68mm, IPC High Density)
footprint LT-MS8E-8-1880X1680TP_M (SOP, 8-Leads, Body 3.1x3.1mm, Pitch 0.65mm, Thermal Pad 1.88x1.68mm, IPC Low Density)
pins: 1 SW (power) "Switch Node Connection to Inductor. This pin connects to the drains of the internal power MOSFET switches.", 2 VIN (power) "Main Supply Pin. A ceramic bypass capacitor should be tied between this pin and GND (Pin 8).", 3 ISET (in), 4 SS (in) "Soft-Start Control Input. A capacitor to ground at this pin sets the ramp time to full current output during start-up. A 5uA current is sourced out of this pin. If left floating, the ramp time defaults to an internal 0.75ms (See Datasheet)", 5 RUN (in), 6 VFB (in) "Output Voltage Feedback. For the fixed output versions, connect this pin to the output supply. For the adjustable version, an external resistive divider should be used to divide the output voltage down for comparison to the (See Datasheet)", 7 HYST (oc) "Run Hysteresis Open-Drain Logic Output. This pin is pulled to ground when RUN (Pin 5) is below 1.2V. This pin can be used to adjust the RUN pin hysteresis. See Applications Information.", 8 GND (power) "Ground. The exposed pad must be soldered to the printed circuit board ground plane for optimal electrical and thermal performance.", 9 EP (power) "Ground. The exposed pad must be soldered to the printed circuit board ground plane for optimal electrical and thermal performance."

## LTC3642EMS8E-3.3#TRPBF
designator U?
High Efficiency, High Voltage 50 mA Synchronous Step-Down Converter, 8-pin SOP(MS8E-8), -40 to 125 degC, Pb-Free, Tape and Reel; Manufacturer: Linear Technology; PartNumber: LTC3642EMS8E-3.3#TRPBF; Number of Outputs: 1; Over Voltage Protection(V): 60; DatasheetVersion: Rev. C; PackageVersion: Rev. F; PackageReference: MS8E-8; PackageDescription: 8-Pin Plastic MSOP, Exposed Die Pad, Body 3 x 3 mm, Pitch 0.65 mm; Supplier 1: Digi-Key; Supplier Part Number 1: LTC3642EMS8E-3.3#TRPBF-ND; Packing: Tape and Reel; RoHS: TRUE; Mounting Technology: Surface Mount; ComponentLink1Description: Manufacturer URL; ComponentLink1URL: http://www.linear.com/; ComponentLink2Description: Datasheet; ComponentLink2URL: http://cds.linear.com/docs/en/datasheet/3642fc.pdf; ComponentLink3Description: Package Specification; ComponentLink3URL: http://cds.linear.com/docs/en/datasheet/3080fc.pdf
footprint LT-MS8E-8-1880X1680TP_N (SOP, 8-Leads, Body 3.1x3.1mm, Pitch 0.65mm, Thermal Pad 1.88x1.68mm, IPC Medium Density)
footprint LT-MS8E-8-1880X1680TP_L (SOP, 8-Leads, Body 3.1x3.1mm, Pitch 0.65mm, Thermal Pad 1.88x1.68mm, IPC High Density)
footprint LT-MS8E-8-1880X1680TP_M (SOP, 8-Leads, Body 3.1x3.1mm, Pitch 0.65mm, Thermal Pad 1.88x1.68mm, IPC Low Density)
pins: 1 SW (power) "Switch Node Connection to Inductor. This pin connects to the drains of the internal power MOSFET switches.", 2 VIN (power) "Main Supply Pin. A ceramic bypass capacitor should be tied between this pin and GND (Pin 8).", 3 ISET (in), 4 SS (in) "Soft-Start Control Input. A capacitor to ground at this pin sets the ramp time to full current output during start-up. A 5uA current is sourced out of this pin. If left floating, the ramp time defaults to an internal 0.75ms (See Datasheet)", 5 RUN (in), 6 VFB (in) "Output Voltage Feedback. For the fixed output versions, connect this pin to the output supply. For the adjustable version, an external resistive divider should be used to divide the output voltage down for comparison to the (See Datasheet)", 7 HYST (oc) "Run Hysteresis Open-Drain Logic Output. This pin is pulled to ground when RUN (Pin 5) is below 1.2V. This pin can be used to adjust the RUN pin hysteresis. See Applications Information.", 8 GND (power) "Ground. The exposed pad must be soldered to the printed circuit board ground plane for optimal electrical and thermal performance.", 9 EP (power) "Ground. The exposed pad must be soldered to the printed circuit board ground plane for optimal electrical and thermal performance."

## LTC3642EMS8E-5#PBF
designator U?
High Efficiency, High Voltage 50 mA Synchronous Step-Down Converter, 8-pin SOP(MS8E-8), -40 to 125 degC, Pb-Free; Manufacturer: Linear Technology; PartNumber: LTC3642EMS8E-5#PBF; Number of Outputs: 1; Over Voltage Protection(V): 60; DatasheetVersion: Rev. C; PackageVersion: Rev. F; PackageReference: MS8E-8; PackageDescription: 8-Pin Plastic MSOP, Exposed Die Pad, Body 3 x 3 mm, Pitch 0.65 mm; Supplier 1: Digi-Key; Supplier Part Number 1: LTC3642EMS8E-5#PBF-ND; Supplier 2: Newark; Supplier Part Number 2: 31P7586; RoHS: TRUE; Mounting Technology: Surface Mount; ComponentLink1Description: Manufacturer URL; ComponentLink1URL: http://www.linear.com/; ComponentLink2Description: Datasheet; ComponentLink2URL: http://cds.linear.com/docs/en/datasheet/3642fc.pdf; ComponentLink3Description: Package Specification; ComponentLink3URL: http://cds.linear.com/docs/en/datasheet/3080fc.pdf
footprint LT-MS8E-8-1880X1680TP_N (SOP, 8-Leads, Body 3.1x3.1mm, Pitch 0.65mm, Thermal Pad 1.88x1.68mm, IPC Medium Density)
footprint LT-MS8E-8-1880X1680TP_L (SOP, 8-Leads, Body 3.1x3.1mm, Pitch 0.65mm, Thermal Pad 1.88x1.68mm, IPC High Density)
footprint LT-MS8E-8-1880X1680TP_M (SOP, 8-Leads, Body 3.1x3.1mm, Pitch 0.65mm, Thermal Pad 1.88x1.68mm, IPC Low Density)
pins: 1 SW (power) "Switch Node Connection to Inductor. This pin connects to the drains of the internal power MOSFET switches.", 2 VIN (power) "Main Supply Pin. A ceramic bypass capacitor should be tied between this pin and GND (Pin 8).", 3 ISET (in), 4 SS (in) "Soft-Start Control Input. A capacitor to ground at this pin sets the ramp time to full current output during start-up. A 5uA current is sourced out of this pin. If left floating, the ramp time defaults to an internal 0.75ms (See Datasheet)", 5 RUN (in), 6 VFB (in) "Output Voltage Feedback. For the fixed output versions, connect this pin to the output supply. For the adjustable version, an external resistive divider should be used to divide the output voltage down for comparison to the (See Datasheet)", 7 HYST (oc) "Run Hysteresis Open-Drain Logic Output. This pin is pulled to ground when RUN (Pin 5) is below 1.2V. This pin can be used to adjust the RUN pin hysteresis. See Applications Information.", 8 GND (power) "Ground. The exposed pad must be soldered to the printed circuit board ground plane for optimal electrical and thermal performance.", 9 EP (power) "Ground. The exposed pad must be soldered to the printed circuit board ground plane for optimal electrical and thermal performance."

## LTC3642EMS8E-5#TRPBF
designator U?
High Efficiency, High Voltage 50 mA Synchronous Step-Down Converter, 8-pin SOP(MS8E-8), -40 to 125 degC, Pb-Free, Tape and Reel; Manufacturer: Linear Technology; PartNumber: LTC3642EMS8E-5#TRPBF; Number of Outputs: 1; Over Voltage Protection(V): 60; DatasheetVersion: Rev. C; PackageVersion: Rev. F; PackageReference: MS8E-8; PackageDescription: 8-Pin Plastic MSOP, Exposed Die Pad, Body 3 x 3 mm, Pitch 0.65 mm; Supplier 1: Digi-Key; Supplier Part Number 1: LTC3642EMS8E-5#TRPBF-ND; Packing: Tape and Reel; RoHS: TRUE; Mounting Technology: Surface Mount; ComponentLink1Description: Manufacturer URL; ComponentLink1URL: http://www.linear.com/; ComponentLink2Description: Datasheet; ComponentLink2URL: http://cds.linear.com/docs/en/datasheet/3642fc.pdf; ComponentLink3Description: Package Specification; ComponentLink3URL: http://cds.linear.com/docs/en/datasheet/3080fc.pdf
footprint LT-MS8E-8-1880X1680TP_N (SOP, 8-Leads, Body 3.1x3.1mm, Pitch 0.65mm, Thermal Pad 1.88x1.68mm, IPC Medium Density)
footprint LT-MS8E-8-1880X1680TP_L (SOP, 8-Leads, Body 3.1x3.1mm, Pitch 0.65mm, Thermal Pad 1.88x1.68mm, IPC High Density)
footprint LT-MS8E-8-1880X1680TP_M (SOP, 8-Leads, Body 3.1x3.1mm, Pitch 0.65mm, Thermal Pad 1.88x1.68mm, IPC Low Density)
pins: 1 SW (power) "Switch Node Connection to Inductor. This pin connects to the drains of the internal power MOSFET switches.", 2 VIN (power) "Main Supply Pin. A ceramic bypass capacitor should be tied between this pin and GND (Pin 8).", 3 ISET (in), 4 SS (in) "Soft-Start Control Input. A capacitor to ground at this pin sets the ramp time to full current output during start-up. A 5uA current is sourced out of this pin. If left floating, the ramp time defaults to an internal 0.75ms (See Datasheet)", 5 RUN (in), 6 VFB (in) "Output Voltage Feedback. For the fixed output versions, connect this pin to the output supply. For the adjustable version, an external resistive divider should be used to divide the output voltage down for comparison to the (See Datasheet)", 7 HYST (oc) "Run Hysteresis Open-Drain Logic Output. This pin is pulled to ground when RUN (Pin 5) is below 1.2V. This pin can be used to adjust the RUN pin hysteresis. See Applications Information.", 8 GND (power) "Ground. The exposed pad must be soldered to the printed circuit board ground plane for optimal electrical and thermal performance.", 9 EP (power) "Ground. The exposed pad must be soldered to the printed circuit board ground plane for optimal electrical and thermal performance."